# Altium schematic symbol library Fuse.SchLib: 12 symbols
Pins are listed as number, name and electrical type; pins without a type are passive.

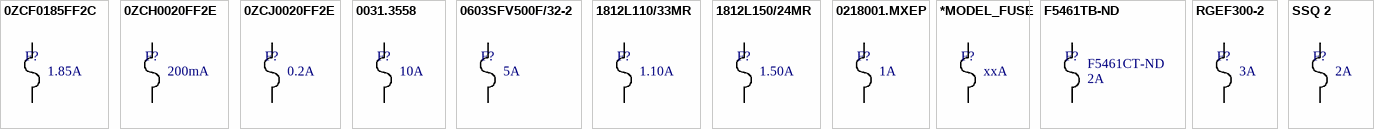
[diagram p0: symbols 0ZCF0185FF2C to SSQ 2]

## 0ZCF0185FF2C
designator F?  value 1.85A  (hidden comment: 0ZCF0185FF2C)
PTC RESTTBLE 33V 1.85A CHIP 2920; Manufacturer: Bel Fuse Inc.; Mount Type: SMD; Supplier 1: Digi-Key; Supplier Part Number 1: 507-1747-1-ND
footprint F2920
pins: 1 (power), 2 (power)

## 0ZCH0020FF2E
designator F?  value 200mA  (hidden comment: 0ZCH0020FF2E)
PTC RESTTBLE 0.20A 30V CHIP 1210; Manufacturer: Bel Fuse Inc.; Mount Type: SMD; Supplier 1: Mouser; Supplier Part Number 1: 530-0ZCH0020FF2E; Supplier 2: Digi-Key; Supplier Part Number 2: 507-1784-1-ND
footprint F1210
pins: 1 (power), 2 (power)

## 0ZCJ0020FF2E
designator F?  value 0.2A  (hidden comment: 0ZCJ0020FF2E)
PTC RESTTBLE 0.20A 30V CHIP 1206; Manufacturer: Bel Fuse Inc.; Mount Type: SMD; Supplier 1: Avnet; Supplier Part Number 1: 0ZCJ0020FF2E; Supplier 2: Digi-Key; Supplier Part Number 2: 507-1797-1-ND
footprint F1206
pins: 1 (power), 2 (power)

## 0031.3558
designator F?  value 10A  (hidden comment: 0031.3558)
FUSE HLDR CARTRIDGE 250V 12A PCB; Manufacturer: Schurter Inc.; Mount Type: PTH; Supplier 1: Newark; Supplier Part Number 1: 84K0233; Supplier 2: Avnet; Supplier Part Number 2: 0031.3558; Supplier 3: Farnell; Supplier Part Number 3: 1453524; Supplier 4: Digi-Key; Supplier Part Number 4: 486-1731-ND
footprint Schurter 0031.3558
pins: 1 (power), 2 (power)

## 0603SFV500F/32-2
designator F?  value 5A  (hidden comment: 0603SFV500F/32-2)
FUSE BOARD MOUNT 5A 32VDC 0603; Manufacturer: Littelfuse Inc.; Mount Type: SMD; Supplier 1: Digi-Key; Supplier Part Number 1: 0603SFV500F/32-2CT-ND
footprint F0603
pins: 1 (power), 2 (power)

## 1812L110/33MR
designator F?  value 1.10A  (hidden comment: 1812L110/33MR)
PTC RESETTABLE 33V 1.10A 1812L; Manufacturer: Littelfuse Inc; Mount Type: SMD; Supplier 1: Mouser; Supplier Part Number 1: 576-1812L110/33MR; Supplier 2: Newark; Supplier Part Number 2: 05M2403; Supplier 3: Farnell; Supplier Part Number 3: 1822213; Supplier 4: Digi-Key; Supplier Part Number 4: F3486CT-ND
footprint F1812
pins: 1 (power), 2 (power)

## 1812L150/24MR
designator F?  value 1.50A  (hidden comment: 1812L150/24MR)
PTC RESETTABLE 24V 1.50A 1812L; Manufacturer: Littelfuse Inc; Mount Type: SMD; Supplier 1: Newark; Supplier Part Number 1: 05M2407; Supplier 2: Digi-Key; Supplier Part Number 2: F3487CT-ND; Supplier 3: Farnell; Supplier Part Number 3: 2411299
footprint F1812
pins: 1 (power), 2 (power)

## 0218001.MXEP
designator F?  value 1A  (hidden comment: 0218001.MXEP)
FUSE GLASS 1A 250VAC 5X20MM; Manufacturer: Littelfuse Inc; Mount Type: PTH; Supplier 1: Digi-Key; Supplier Part Number 1: F3610-ND; Supplier 2: Farnell; Supplier Part Number 2: 1421765; Supplier 3: Newark; Supplier Part Number 3: 26K8055
footprint FUSE GLASS 5X20MM PTH
pins: 1 (power), 2 (power)

## *MODEL_FUSE
designator F?, comment value xxA  (hidden comment: Part Number)
Description; Mount Type: *; Manufacturer: *
pins: 1 (power), 2 (power)

## F5461TB-ND
designator F?  value 2A  Supplier Part Number 5: F5461CT-ND  (hidden comment: F5461TB-ND)
FUSE BOARD MOUNT 2A 300VAC RAD; Manufacturer: Littelfuse Inc.; Category: FUSE; Mount Type: PTH; Supplier 1: Mouser; Supplier 2: Newark; Supplier 3: Digi-Key; Supplier Part Number 1: *; Supplier Part Number 2: *; Supplier Part Number 3: 36912000000; Supplier 4: Mouser; Supplier 5: Digi-Key
footprint Fuse_PCB 50mA
pins: 1 (power), 2 (power)

## RGEF300-2
designator F?  value 3A  (hidden comment: RGEF300-2)
POLYSWITCH PTC RESET 3A HLD T/R; Manufacturer: TE Connectivity; Mount Type: PTH; Supplier 1: Mouser; Supplier 2: Newark; Supplier 3: Digi-Key; Supplier 4: Farnell; Supplier Part Number 1: 650-RGEF300-2; Supplier Part Number 2: 76T4556; Supplier Part Number 3: RGEF300-ND; Supplier Part Number 4: 2078392
footprint FUSISTOR
pins: 1 (power), 2 (power)

## SSQ 2
designator F?  value 2A  (hidden comment: SSQ 2)
FUSE BOARD MNT 2A 125VAC/VDC SMD; Manufacturer: Bel Fuse Inc.; Mount Type: SMD; Supplier 1: Digi-Key; Supplier Part Number 1: 507-1048-1-ND
footprint F2410
pins: 1 (power), 2 (power)